# Altium footprint library BAT-HLD-001.PcbLib: 1 footprints
Each footprint in its own frame and in the unit in brackets; x right, y up, seen from the top. Pads: shape width x height; smd on the part's side, far side on the other; paste and mask are expansions set on the pad; w line width, h text height; cw(c..) or ccw(c..) is an arc to the next point about the centre after c.
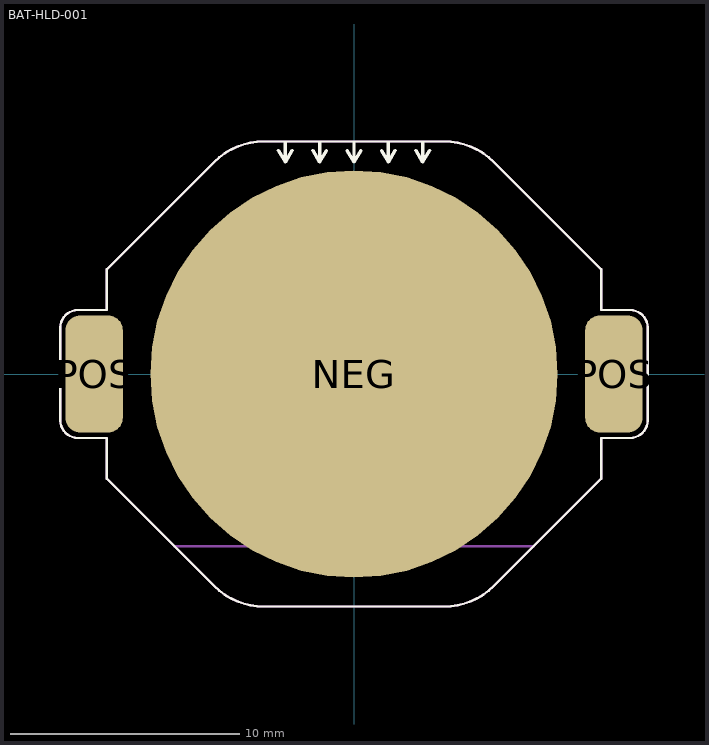
[diagram p0: the footprint, top view; thin cyan lines are the x and y axes]

## BAT-HLD-001 [mm]
pads (3):
  round 17.8 smd mask+0.05: NEG(0,0)
  rrect50% 2.5x5.1 smd mask+0.05: POS(-11.35,0) POS(11.35,0)
Top Overlay:
  lines w0.1: 11.811,2.794 12.065,2.794 ; 12.065,2.794 cw(c12.065,2.032) 12.827,2.032 12.827,-2.032 cw(c12.065,-2.032) 12.065,-2.794 10.795,-2.794 10.795,-4.572 6.105,-9.262 cw(c3.937,-7.094) 3.937,-10.16 -3.937,-10.16 cw(c-3.937,-7.094) -6.105,-9.262 -10.795,-4.572 -10.795,-2.794 -12.065,-2.794 cw(c-12.065,-2.032) -12.827,-2.032 -12.827,2.032 cw(c-12.065,2.032) -12.065,2.794 -10.795,2.794 -10.795,4.572 -6.105,9.262 cw(c-3.937,7.094) -3.937,10.16 3.937,10.16 cw(c3.937,7.094) 6.105,9.262 10.795,4.572 10.795,2.794 12.065,2.794
  lines w0.15: -3.3,9.763 -3,9.263 ; -3,10.125 -3,9.263 ; -2.7,9.763 -3,9.263 ; -1.8,9.763 -1.5,9.263 ; -1.5,10.125 -1.5,9.263 ; -1.2,9.763 -1.5,9.263 ; -0.3,9.763 0,9.263 ; 0,10.125 0,9.263 ; 0.3,9.763 0,9.263 ; 1.2,9.763 1.5,9.263 ; 1.5,10.125 1.5,9.263 ; 1.8,9.763 1.5,9.263 ; 2.7,9.763 3,9.263 ; 3,10.125 3,9.263 ; 3.3,9.763 3,9.263
Top Assembly:
  lines w0.1: -7.85,-7.525 7.85,-7.525 ; 11.811,2.794 12.065,2.794 ; 12.065,2.794 cw(c12.065,2.032) 12.827,2.032 12.827,-2.032 cw(c12.065,-2.032) 12.065,-2.794 10.795,-2.794 10.795,-4.572 6.105,-9.262 cw(c3.937,-7.094) 3.937,-10.16 -3.937,-10.16 cw(c-3.937,-7.094) -6.105,-9.262 -10.795,-4.572 -10.795,-2.794 -12.065,-2.794 cw(c-12.065,-2.032) -12.827,-2.032 -12.827,2.032 cw(c-12.065,2.032) -12.065,2.794 -10.795,2.794 -10.795,4.572 -6.105,9.262 cw(c-3.937,7.094) -3.937,10.16 3.937,10.16 cw(c3.937,7.094) 6.105,9.262 10.795,4.572 10.795,2.794 12.065,2.794
Top Courtyard:
  lines w0.1: 11.811,2.794 12.065,2.794 ; 12.065,2.794 cw(c12.065,2.032) 12.827,2.032 12.827,-2.032 cw(c12.065,-2.032) 12.065,-2.794 10.795,-2.794 10.795,-4.572 6.105,-9.262 cw(c3.937,-7.094) 3.937,-10.16 -3.937,-10.16 cw(c-3.937,-7.094) -6.105,-9.262 -10.795,-4.572 -10.795,-2.794 -12.065,-2.794 cw(c-12.065,-2.032) -12.827,-2.032 -12.827,2.032 cw(c-12.065,2.032) -12.065,2.794 -10.795,2.794 -10.795,4.572 -6.105,9.262 cw(c-3.937,7.094) -3.937,10.16 3.937,10.16 cw(c3.937,7.094) 6.105,9.262 10.795,4.572 10.795,2.794 12.065,2.794
3D body "CircuitWorks-BATT CR2032.step": height 3.2, standoff 0, extent -10,-10 10,10
3D body "User Library-1-49.step": height 3.5, standoff 0, extent -11.45,-7.528 11.45,7.942